# EAGLE library part NUF2221W1T2 (library TSOC-ESP8266-BASE)
NUF2221W1T2 USB ESD Protection, EMI FIlter, and Line Termination
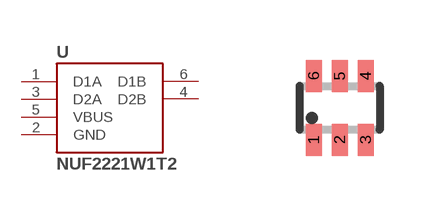
[diagram p4: symbol with the pads of SOT-363; footprint SOT-363]

Designator prefix -

## NUF2221W1T2  [SOT-363]
1  D1A
2  GND
3  D2A
4  D2B
5  VBUS
6  D1B

## Footprint SOT-363 (pad centres in mm)
SOT-363 Small Outline Transistor; 6 leads
smd 0.4 x 0.8: 1 -0.65,-0.8; 2 0,-0.8; 3 0.65,-0.8; 4 0.65,0.8; 5 0,0.8; 6 -0.65,0.8